# Altium footprint library HEXCAL_PCB_LIB.PcbLib: 209 footprints (part 6 of 14)
Each footprint in its own frame and in the unit in brackets; x right, y up, seen from the top. Pads: shape width x height; smd on the part's side, far side on the other; paste and mask are expansions set on the pad; w line width, h text height; cw(c..) or ccw(c..) is an arc to the next point about the centre after c.
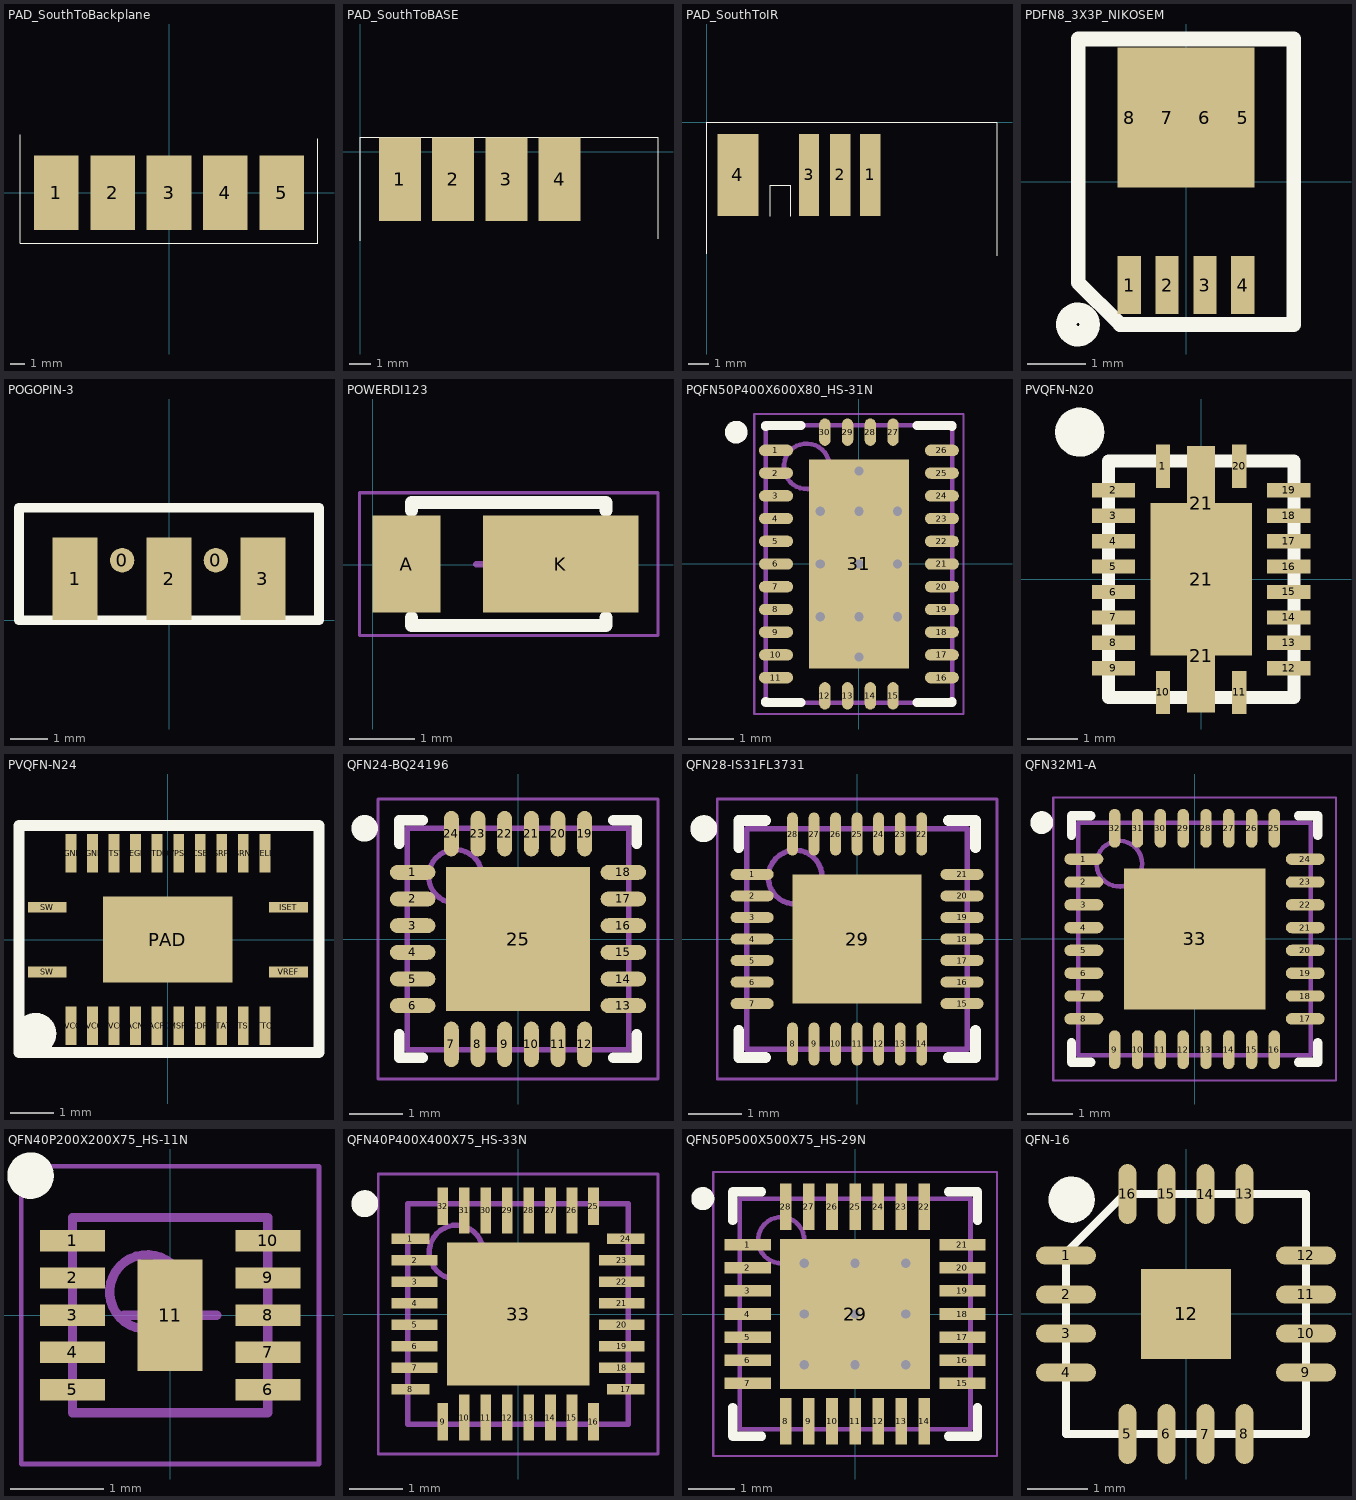
[diagram p5: the footprints below, top view; thin cyan lines are the x and y axes]

## PAD_SouthToBackplane [mm]
pads (5):
  rect 3x5 smd: 1(-7.6,0) 2(-3.8,0) 3(0,0) 4(3.8,0) 5(7.6,0)
Top Overlay:
  lines w0.013: -10,3.912 -10,-3.4 10,-3.4 10,3.632

## PAD_SouthToBASE [mm]
pads (4):
  rect 2x4 smd: 1(1.892,-1.3) 2(4.432,-1.3) 3(6.972,-1.3) 4(9.512,-1.3)
Top Overlay:
  lines w0.013: 0,-4.242 0,0.711 14.2,0.711 14.2,-4.14

## PAD_SouthToIR [mm]
pads (4):
  rect 1x4 smd: 1(8.001,-2.591) 2(6.528,-2.591) 3(5.004,-2.591)
  rect 2x4 smd: 4(1.524,-2.591)
Top Overlay:
  lines w0.013: 0,-6.452 0,0 14.2,0 14.2,-6.553 ; 3.1,-4.6 3.1,-3.1 ; 3.1,-3.101 4.1,-3.101 ; 4.1,-4.6 4.1,-3.1

## PDFN8_3X3P_NIKOSEM [mm]
pads (8):
  rect 0.4x1 smd: 1(-0.975,-1.775) 2(-0.325,-1.775) 3(0.325,-1.775) 4(0.975,-1.775)
  rect 0.4x2.4 smd: 5(0.975,1.1) 8(-0.975,1.1)
  rect 1x2.4 smd: 6(0.325,1.1) 7(-0.325,1.1)
Top Overlay:
  circle w0.254: c-1.854,-2.45 r0.25
  circle w0.254: c-1.854,-2.45 r0.153
  lines w0.254: -1.85,-1.731 -1.85,2.45 1.85,2.45 1.85,-2.45 -1.131,-2.45 -1.85,-1.731

## POGOPIN-3 [mm]
pads (5):
  round 0.65 all layers, no hole: 0(-1.25,1.6) 0(1.25,1.6)
  rect 1.2x2.2 smd: 1(-2.5,1.1) 2(0,1.1) 3(2.5,1.1)
Top Overlay:
  lines w0.254: -4,0 -4,3 4,3 4,0 -4,0

## POWERDI123 [mm]
height 1
pads (2):
  rect 1.05x1.5 smd: A(0.525,0.011)
  rect 2.4x1.5 smd: K(2.9,0.012)
Top Overlay:
  lines w0.2: 0.6,-0.814 0.6,-0.939 3.6,-0.939 3.6,-0.814 ; 0.6,0.836 0.6,0.961 3.6,0.961 3.6,0.836
Mechanical 13:
  lines w0.1: 0.6,-0.954 3.6,-0.954 3.6,0.976 0.6,0.976 0.6,-0.954
Mechanical 15:
  lines w0.05: -0.2,-1.089 4.4,-1.089 4.4,1.111 -0.2,1.111 -0.2,-1.089
  lines w0.1: 1.6,0.011 2.6,0.011 ; 2.1,-0.489 2.1,0.511
3D body: height 1, standoff 0, extent 0.6,-0.954 3.6,0.976

## PQFN50P400X600X80_HS-31N [mm] "PQFN, 30-Leads, Body 4.00x6.00mm, Pitch 0.50mm, Thermal Pad 2.20x4.60mm, IPC Medium Density"
height 0.8
pads (31):
  oval 0.75x0.25 smd: 1(-1.825,2.5) 2(-1.825,2) 3(-1.825,1.5) 4(-1.825,1) 5(-1.825,0.5) 6(-1.825,0) 7(-1.825,-0.5) 8(-1.825,-1) 9(-1.825,-1.5) 10(-1.825,-2) 11(-1.825,-2.5) 16(1.825,-2.5) 17(1.825,-2) 18(1.825,-1.5) 19(1.825,-1) 20(1.825,-0.5) 21(1.825,0) 22(1.825,0.5) 23(1.825,1) 24(1.825,1.5) 25(1.825,2) 26(1.825,2.5)
  oval 0.25x0.6 smd: 12(-0.75,-2.9) 13(-0.25,-2.9) 14(0.25,-2.9) 15(0.75,-2.9) 27(0.75,2.9) 28(0.25,2.9) 29(-0.25,2.9) 30(-0.75,2.9)
  rect 2.2x4.6 smd: 31(0,0)
via 0,-2.05 diameter 0.5 hole 0.2
via 0,-1.16 diameter 0.5 hole 0.2
via 0.85,-1.16 diameter 0.5 hole 0.2
via -0.85,-1.16 diameter 0.5 hole 0.2
via 0,0 diameter 0.5 hole 0.2
via 0.85,0 diameter 0.5 hole 0.2
via -0.85,0 diameter 0.5 hole 0.2
via -0.85,1.16 diameter 0.5 hole 0.2
via 0.85,1.16 diameter 0.5 hole 0.2
via 0,1.16 diameter 0.5 hole 0.2
via 0,2.05 diameter 0.5 hole 0.2
Top Overlay:
  circle w0.25: c-2.7,2.9 r0.125
  lines w0.2: -2.05,-3.025 -2.05,-3.05 -1.275,-3.05 ; -2.05,3.025 -2.05,3.05 -1.275,3.05 ; 1.275,-3.05 2.05,-3.05 2.05,-3.025 ; 1.275,3.05 2.05,3.05 2.05,3.025
Mechanical 13:
  circle w0.1: c-1.15,2.15 r0.5
  lines w0.1: -2.05,-3.05 2.05,-3.05 2.05,3.05 -2.05,3.05 -2.05,-3.05
Mechanical 15:
  lines w0.05: -2.3,-3.3 2.3,-3.3 2.3,3.3 -2.3,3.3 -2.3,-3.3
  lines w0.1: -0.5,0 0.5,0 ; 0,-0.5 0,0.5
3D body: height 0.8, standoff 0, extent -2.05,-3.05 2.05,3.05

## PVQFN-N20 [mm]
pads (23):
  rect 0.28x0.85 smd: 1(-0.75,2.225) 10(-0.75,-2.225) 11(0.75,-2.225) 20(0.75,2.225)
  rect 0.85x0.28 smd: 2(-1.725,1.75) 3(-1.725,1.25) 4(-1.725,0.75) 5(-1.725,0.25) 6(-1.725,-0.25) 7(-1.725,-0.75) 8(-1.725,-1.25) 9(-1.725,-1.75) 12(1.725,-1.75) 13(1.725,-1.25) 14(1.725,-0.75) 15(1.725,-0.25) 16(1.725,0.25) 17(1.725,0.75) 18(1.725,1.25) 19(1.725,1.75)
  rect 0.55x2.25 smd: 21(0,-1.5) 21(0,1.5)
  rect 2x3 smd: 21(0,0)
Top Overlay:
  circle w0.254: c-2.388,2.896 r0.357
  circle w0.254: c-2.388,2.896 r0.13
  lines w0.254: -1.825,-2.325 1.825,-2.325 1.825,2.325 -1.825,2.325 -1.825,-2.325

## PVQFN-N24 [mm]
pads (25):
  rect 0.25x0.9 smd: ACDRV(0.75,-2) ACN(-0.75,-2) ACP(-0.25,-2) ACSET(0.75,2) AVCC(-1.25,-2) BATDRV(-0.25,2) BTST(-1.25,2) CELL(2.25,2) CMSRC(0.25,-2) OVPSET(0.25,2) PGND(-2.25,2) PGND(-1.75,2) PVCC(-2.25,-2) PVCC(-1.75,-2) REGN(-0.75,2) SRN(1.75,2) SRP(1.25,2) STAT(1.25,-2) TS(1.75,-2) TTC(2.25,-2)
  rect 0.9x0.25 smd: ISET(2.8,0.75) SW(-2.8,-0.75) SW(-2.8,0.75) VREF(2.8,-0.75)
  rect 3x2 smd: PAD(0,0)
Top Overlay:
  circle w0.254: c-3.073,-2.184 r0.13
  circle w0.254: c-3.073,-2.184 r0.357
  lines w0.254: -3.454,-2.616 0.979,-2.616 3.505,-2.616 3.505,0.105 3.505,2.642 -3.454,2.642 -3.454,-2.616

## QFN24-BQ24196 [mm]
height 0.9
pads (25):
  oval 0.85x0.28 smd: 1(-1.975,1.25) 2(-1.975,0.75) 3(-1.975,0.25) 4(-1.975,-0.25) 5(-1.975,-0.75) 6(-1.975,-1.25) 13(1.975,-1.25) 14(1.975,-0.75) 15(1.975,-0.25) 16(1.975,0.25) 17(1.975,0.75) 18(1.975,1.25)
  oval 0.28x0.85 smd: 7(-1.25,-1.975) 8(-0.75,-1.975) 9(-0.25,-1.975) 10(0.25,-1.975) 11(0.75,-1.975) 12(1.25,-1.975) 19(1.25,1.975) 20(0.75,1.975) 21(0.25,1.975) 22(-0.25,1.975) 23(-0.75,1.975) 24(-1.25,1.975)
  rect 2.7x2.7 smd: 25(0,0)
Top Overlay:
  circle w0.25: c-2.875,2.075 r0.125
  lines w0.2: -2.225,-1.79 -2.225,-2.225 -1.79,-2.225 ; -2.225,1.79 -2.225,2.225 -1.79,2.225 ; 1.79,-2.225 2.225,-2.225 2.225,-1.79 ; 1.79,2.225 2.225,2.225 2.225,1.79
Mechanical 13:
  circle w0.1: c-1.175,1.175 r0.5
  lines w0.1: -2.075,-2.075 -2.075,2.075 2.075,2.075 2.075,-2.075 -2.075,-2.075
Mechanical 15:
  lines w0.05: -2.625,-2.625 -2.625,2.625 2.625,2.625 2.625,-2.625 -2.625,-2.625
  lines w0.1: -0.5,0 0.5,0 ; 0,-0.5 0,0.5
3D body: height 0.9, standoff 0, extent -2.076,-2.076 2.076,2.076

## QFN28-IS31FL3731 [mm]
height 0.75
pads (29):
  oval 0.8x0.2 smd: 1(-1.95,1.2) 2(-1.95,0.8) 3(-1.95,0.4) 4(-1.95,0) 5(-1.95,-0.4) 6(-1.95,-0.8) 7(-1.95,-1.2) 15(1.95,-1.2) 16(1.95,-0.8) 17(1.95,-0.4) 18(1.95,0) 19(1.95,0.4) 20(1.95,0.8) 21(1.95,1.2)
  oval 0.2x0.8 smd: 8(-1.2,-1.95) 9(-0.8,-1.95) 10(-0.4,-1.95) 11(0,-1.95) 12(0.4,-1.95) 13(0.8,-1.95) 14(1.2,-1.95) 22(1.2,1.95) 23(0.8,1.95) 24(0.4,1.95) 25(0,1.95) 26(-0.4,1.95) 27(-0.8,1.95) 28(-1.2,1.95)
  rect 2.4x2.4 smd: 29(0,0)
Top Overlay:
  circle w0.25: c-2.85,2.05 r0.125
  lines w0.2: -2.2,-1.7 -2.2,-2.2 -1.7,-2.2 ; -2.2,1.7 -2.2,2.2 -1.7,2.2 ; 1.7,-2.2 2.2,-2.2 2.2,-1.7 ; 1.7,2.2 2.2,2.2 2.2,1.7
Mechanical 13:
  circle w0.1: c-1.15,1.15 r0.5
  lines w0.1: -2.05,-2.05 -2.05,2.05 2.05,2.05 2.05,-2.05 -2.05,-2.05
Mechanical 15:
  lines w0.05: -2.6,-2.6 -2.6,2.6 2.6,2.6 2.6,-2.6 -2.6,-2.6
  lines w0.1: -0.5,0 0.5,0 ; 0,-0.5 0,0.5
3D body: height 0.75, standoff 0, extent -2.051,-2.051 2.051,2.051

## QFN32M1-A [mm] "QFN, 32-Leads, Body 5.00x5.00mm, Pitch 0.50mm, Thermal Pad 3.10x3.10mm, IPC Medium Density"
height 0.9
pads (33):
  oval 0.85x0.25 smd: 1(-2.425,1.75) 2(-2.425,1.25) 3(-2.425,0.75) 4(-2.425,0.25) 5(-2.425,-0.25) 6(-2.425,-0.75) 7(-2.425,-1.25) 8(-2.425,-1.75) 17(2.425,-1.75) 18(2.425,-1.25) 19(2.425,-0.75) 20(2.425,-0.25) 21(2.425,0.25) 22(2.425,0.75) 23(2.425,1.25) 24(2.425,1.75)
  oval 0.25x0.85 smd: 9(-1.75,-2.425) 10(-1.25,-2.425) 11(-0.75,-2.425) 12(-0.25,-2.425) 13(0.25,-2.425) 14(0.75,-2.425) 15(1.25,-2.425) 16(1.75,-2.425) 25(1.75,2.425) 26(1.25,2.425) 27(0.75,2.425) 28(0.25,2.425) 29(-0.25,2.425) 30(-0.75,2.425) 31(-1.25,2.425) 32(-1.75,2.425)
  rect 3.1x3.1 smd: 33(0,0)
Top Overlay:
  circle w0.25: c-3.35,2.55 r0.125
  lines w0.2: -2.7,-2.275 -2.7,-2.7 -2.275,-2.7 ; -2.7,2.275 -2.7,2.7 -2.275,2.7 ; 2.275,-2.7 2.7,-2.7 2.7,-2.275 ; 2.275,2.7 2.7,2.7 2.7,2.275
Mechanical 13:
  circle w0.1: c-1.65,1.65 r0.5
  lines w0.1: -2.55,-2.55 2.55,-2.55 2.55,2.55 -2.55,2.55 -2.55,-2.55
Mechanical 15:
  lines w0.05: -3.1,-3.1 3.1,-3.1 3.1,3.1 -3.1,3.1 -3.1,-3.1
  lines w0.1: -0.5,0 0.5,0 ; 0,-0.5 0,0.5
3D body: height 0.9, standoff 0.2, extent -2.55,-2.55 2.55,2.55

## QFN40P200X200X75_HS-11N [mm] "QFN, 10-Leads, Body 2.00x2.00mm, Pitch 0.40mm, Thermal Pad 0.70x1.20mm, IPC Medium Density"
height 0.75
pads (11):
  rect 0.7x0.23 smd: 1(-1.05,0.8) 2(-1.05,0.4) 3(-1.05,0) 4(-1.05,-0.4) 5(-1.05,-0.8) 6(1.05,-0.8) 7(1.05,-0.4) 8(1.05,0) 9(1.05,0.4) 10(1.05,0.8)
  rect 0.7x1.2 smd: 11(0,0)
Top Overlay:
  circle w0.25: c-1.5,1.5 r0.125
Mechanical 13:
  circle w0.1: c-0.25,0.25 r0.4
  lines w0.1: -1.05,-1.05 1.05,-1.05 1.05,1.05 -1.05,1.05 -1.05,-1.05
Mechanical 15:
  lines w0.05: -1.6,-1.6 1.6,-1.6 1.6,1.6 -1.6,1.6 -1.6,-1.6
  lines w0.1: -0.5,0 0.5,0 ; 0,-0.5 0,0.5
3D body: height 0.75, standoff 0, extent -1.051,-1.05 1.051,1.05

## QFN40P400X400X75_HS-33N [mm] "QFN, 32-Leads, Body 4.00x4.00mm, Pitch 0.40mm, Thermal Pad 2.65x2.65mm, IPC Medium Density"
height 0.75
pads (33):
  rect 0.7x0.2 smd: 1(-2,1.4) 8(-2,-1.4) 17(2,-1.4) 24(2,1.4)
  rect 0.85x0.2 smd: 2(-1.925,1) 3(-1.925,0.6) 4(-1.925,0.2) 5(-1.925,-0.2) 6(-1.925,-0.6) 7(-1.925,-1) 18(1.925,-1) 19(1.925,-0.6) 20(1.925,-0.2) 21(1.925,0.2) 22(1.925,0.6) 23(1.925,1)
  rect 0.2x0.7 smd: 9(-1.4,-2) 16(1.4,-2) 25(1.4,2) 32(-1.4,2)
  rect 0.2x0.85 smd: 10(-1,-1.925) 11(-0.6,-1.925) 12(-0.2,-1.925) 13(0.2,-1.925) 14(0.6,-1.925) 15(1,-1.925) 26(1,1.925) 27(0.6,1.925) 28(0.2,1.925) 29(-0.2,1.925) 30(-0.6,1.925) 31(-1,1.925)
  rect 2.65x2.65 smd: 33(0,0)
Top Overlay:
  circle w0.25: c-2.85,2.05 r0.125
Mechanical 13:
  circle w0.1: c-1.15,1.15 r0.5
  lines w0.1: -2.05,-2.05 2.05,-2.05 2.05,2.05 -2.05,2.05 -2.05,-2.05
Mechanical 15:
  lines w0.05: -2.6,-2.6 -2.6,2.6 2.6,2.6 2.6,-2.6 -2.6,-2.6
  lines w0.1: -0.5,0 0.5,0 ; 0,-0.5 0,0.5
3D body: height 0.75, standoff 0, extent -2.07,-2.07 2.07,2.07

## QFN50P500X500X75_HS-29N [mm] "QFN, 28-Leads, Body 5.00x5.00mm, Pitch 0.50mm, Thermal Pad 3.25x3.25mm, IPC Medium Density"
height 0.75
pads (29):
  rect 1x0.25 smd: 1(-2.325,1.5) 2(-2.325,1) 3(-2.325,0.5) 4(-2.325,0) 5(-2.325,-0.5) 6(-2.325,-1) 7(-2.325,-1.5) 15(2.325,-1.5) 16(2.325,-1) 17(2.325,-0.5) 18(2.325,0) 19(2.325,0.5) 20(2.325,1) 21(2.325,1.5)
  rect 0.25x1 smd: 8(-1.5,-2.325) 9(-1,-2.325) 10(-0.5,-2.325) 11(0,-2.325) 12(0.5,-2.325) 13(1,-2.325) 14(1.5,-2.325) 22(1.5,2.325) 23(1,2.325) 24(0.5,2.325) 25(0,2.325) 26(-0.5,2.325) 27(-1,2.325) 28(-1.5,2.325)
  rect 3.25x3.25 smd: 29(0,0)
via 1.1,-1.1 diameter 0.5 hole 0.2
via 0,-1.1 diameter 0.5 hole 0.2
via -1.1,-1.1 diameter 0.5 hole 0.2
via 1.1,0 diameter 0.5 hole 0.2
via 0,0 diameter 0.5 hole 0.2
via -1.1,0 diameter 0.5 hole 0.2
via 1.1,1.1 diameter 0.5 hole 0.2
via 0,1.1 diameter 0.5 hole 0.2
via -1.1,1.1 diameter 0.5 hole 0.2
Top Overlay:
  circle w0.25: c-3.3,2.5 r0.125
  lines w0.2: -2.65,-2.025 -2.65,-2.65 -2.025,-2.65 ; -2.65,2.025 -2.65,2.65 -2.025,2.65 ; 2.025,-2.65 2.65,-2.65 2.65,-2.025 ; 2.025,2.65 2.65,2.65 2.65,2.025
Mechanical 13:
  circle w0.1: c-1.6,1.6 r0.5
  lines w0.1: -2.5,-2.5 2.5,-2.5 2.5,2.5 -2.5,2.5 -2.5,-2.5
Mechanical 15:
  lines w0.05: -3.075,-3.075 3.075,-3.075 3.075,3.075 -3.075,3.075 -3.075,-3.075
  lines w0.1: -0.5,0 0.5,0 ; 0,-0.5 0,0.5
3D body: height 0.75, standoff 0, extent -2.52,-2.52 2.52,2.52

## QFN-16 [mm]
pads (17):
  oval 1x0.3 smd: 1(-2,0.975) 2(-2,0.325) 3(-2,-0.325) 4(-2,-0.975) 9(2,-0.975) 10(2,-0.325) 11(2,0.325) 12(2,0.975)
  oval 0.3x1 smd: 5(-0.975,-2) 6(-0.325,-2) 7(0.325,-2) 8(0.975,-2) 13(0.975,2) 14(0.325,2) 15(-0.325,2) 16(-0.975,2)
  rect 1.5x1.5 smd: 12(0,0)
Top Overlay:
  circle w0.254: c-1.905,1.905 r0.127
  circle w0.254: c-1.905,1.905 r0.259
  lines w0.127: -2,-2 2,-2 2,2 -1.023,2 -2,1.023 -2,-2